# Altium footprint library 发送端PCB.PcbLib: 17 footprints (part 2 of 2)
Each footprint in its own frame and in the unit in brackets; x right, y up, seen from the top. Pads: shape width x height; smd on the part's side, far side on the other; paste and mask are expansions set on the pad; w line width, h text height; cw(c..) or ccw(c..) is an arc to the next point about the centre after c.
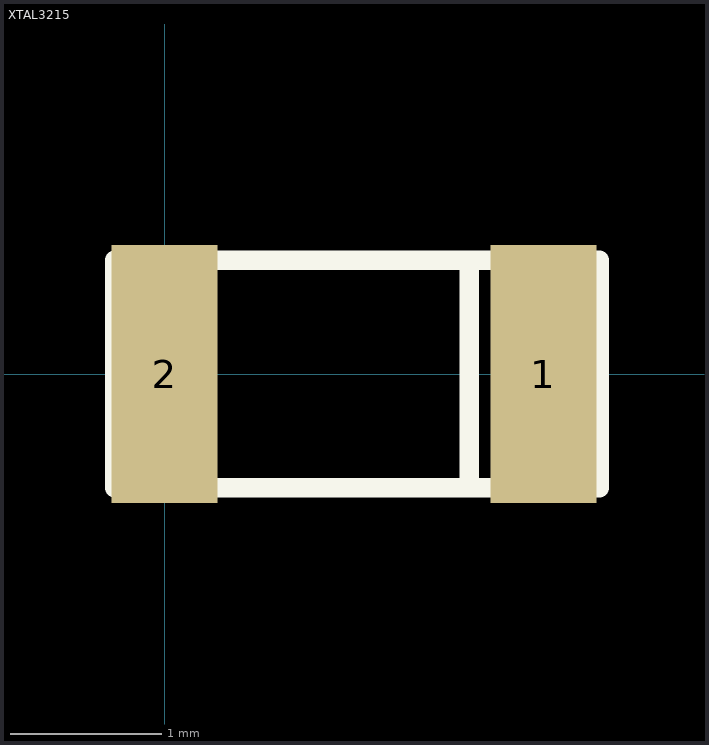
[diagram p1: the footprint, top view; thin cyan lines are the x and y axes]

## XTAL3215 [mm]
height 2.65
pads (2):
  rect 0.7x1.7 smd: 1(2.5,0) 2(0,0)
Top Overlay:
  lines w0.127: 2.01,-0.694 2.01,0.721 ; -0.33,-0.75 2.87,-0.75 2.87,0.75 -0.33,0.75 -0.33,-0.75